# EAGLE library part MAX14595ETA+T (library MAX14595ETA+T)
MAXIM INTEGRATED PRODUCTS - MAX14595ETA+T - LOGIC LEVEL TRANSLATOR, 2-CH, TDFN-8 Source: Datasheet <https://datasheets.maximintegrated.com/en/ds/MAX14595.pdf>
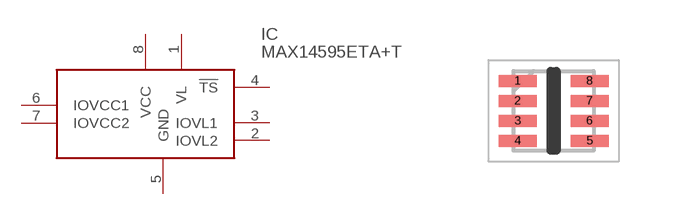
[diagram p0: symbol with the pads of SON50P200X200X80-8N; footprint SON50P200X200X80-8N]

Designator prefix IC

## MAX14595ETA+T (DESCRIPTION: MAXIM INTEGRATED PRODUCTS - MAX14595ETA+T - LOGIC LEVEL TRANSLATOR, 2-CH, TDFN-8; DIGIKEY_PART_NUMBER: MAX14595ETA+TTR-ND; DIGIKEY_PRICE-STOCK: https://www.digikey.co.uk/product-detail/en/maxim-integrated/MAX14595ETA-T/MAX14595ETA-TTR-ND/5086323; HEIGHT: 0.8mm; MANUFACTURER_NAME: Maxim Integrated; MANUFACTURER_PART_NUMBER: MAX14595ETA+T)  [SON50P200X200X80-8N]
1  VL
2  IOVL2
3  IOVL1
4  !TS
5  GND
6  IOVCC1
7  IOVCC2
8  VCC

## Footprint SON50P200X200X80-8N (pad centres in mm)
21-0487(all-pins-as-pin1)
smd 0.95 x 0.3: 1 -0.9,0.75; 2 -0.9,0.25; 3 -0.9,-0.25; 4 -0.9,-0.75; 5 0.9,-0.75; 6 0.9,-0.25; 7 0.9,0.25; 8 0.9,0.75